# Altium footprint library CHIP.PcbLib: 8 footprints
Each footprint in its own frame and in the unit in brackets; x right, y up, seen from the top. Pads: shape width x height; smd on the part's side, far side on the other; paste and mask are expansions set on the pad; w line width, h text height; cw(c..) or ccw(c..) is an arc to the next point about the centre after c.
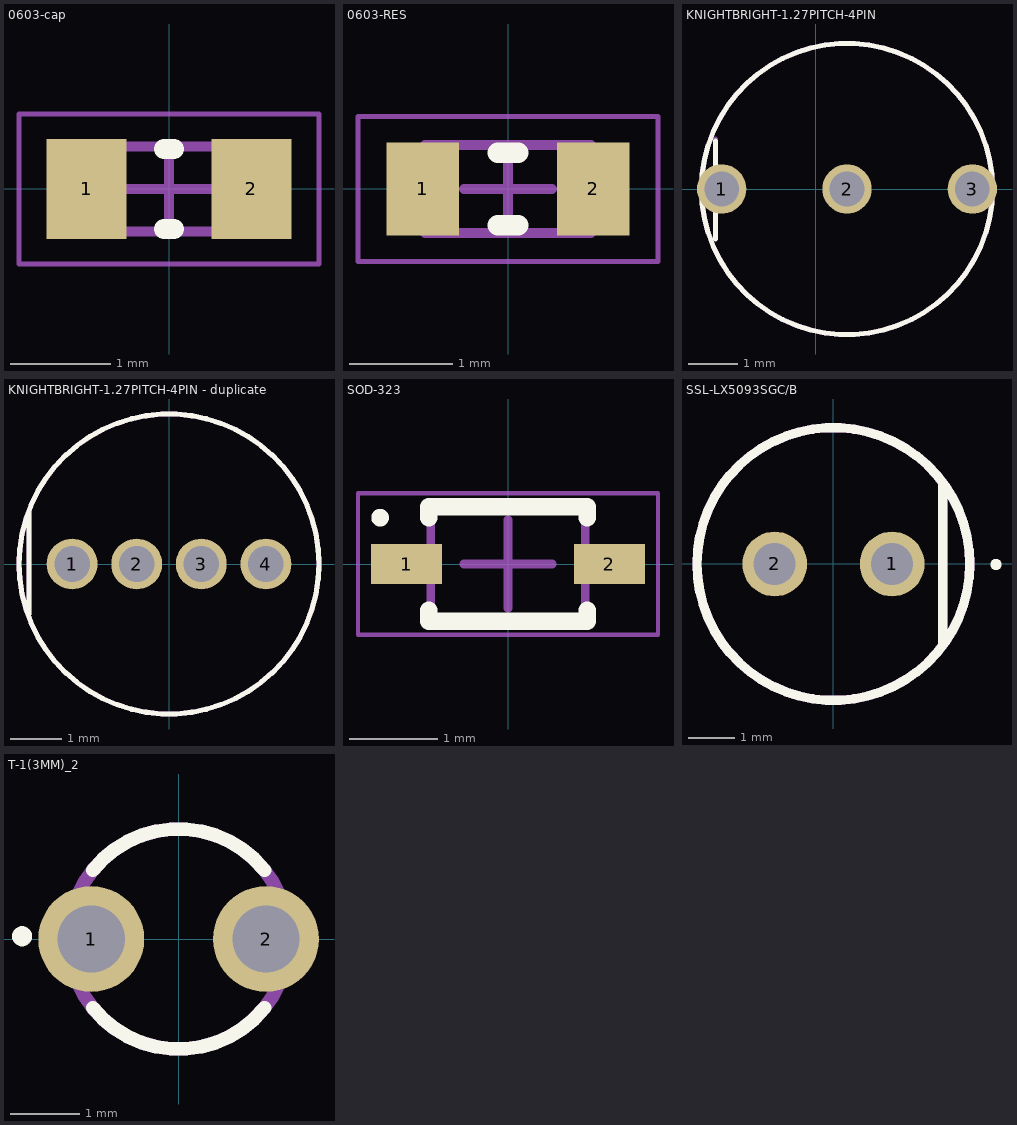
[diagram p0: the footprints below, top view; thin cyan lines are the x and y axes]

## 0603-cap [mm] "Chip Capacitor, 2-Leads, Body 1,60x0,85mm, IPC Medium Density"
height 0.6
pads (2):
  rect 0.8x1 smd: 1(-0.825,0) 2(0.825,0)
Top Overlay:
  lines w0.2: -0.05,-0.4 0.05,-0.4 ; -0.05,0.4 0.05,0.4
Mechanical 13:
  lines w0.1: -0.8,-0.425 -0.8,0.425 0.8,0.425 0.8,-0.425 -0.8,-0.425
Mechanical 15:
  lines w0.05: -1.5,-0.75 -1.5,0.75 1.5,0.75 1.5,-0.75 -1.5,-0.75
  lines w0.1: -0.425,0 0.425,0 ; 0,-0.425 0,0.425
3D body: height 0.6, standoff 0, extent -0.5,-0.425 0.5,0.425
3D body: height 0.6, standoff 0, extent -0.8,-0.425 -0.5,0.425
3D body: height 0.6, standoff 0, extent 0.5,-0.425 0.8,0.425

## 0603-RES [mm] "Chip Resistor, 2-Leads, Body 1,60x0,85mm, IPC Medium Density"
height 0.6
pads (2):
  rect 0.7x0.9 smd: 1(-0.825,0) 2(0.825,0)
Top Overlay:
  lines w0.2: -0.1,-0.35 0.1,-0.35 ; -0.1,0.35 0.1,0.35
Mechanical 13:
  lines w0.1: -0.8,-0.425 -0.8,0.425 0.8,0.425 0.8,-0.425 -0.8,-0.425
Mechanical 15:
  lines w0.05: -1.45,-0.7 -1.45,0.7 1.45,0.7 1.45,-0.7 -1.45,-0.7
  lines w0.1: -0.425,0 0.425,0 ; 0,-0.425 0,0.425
3D body: height 0.6, standoff 0, extent -0.5,-0.425 0.5,0.425
3D body: height 0.6, standoff 0, extent -0.8,-0.425 -0.5,0.425
3D body: height 0.6, standoff 0, extent 0.5,-0.425 0.8,0.425

## KNIGHTBRIGHT-1.27PITCH-4PIN [mm]
pads (3):
  round 1 hole 0.7 unplated: 1(-1.905,0) 2(0.635,0) 3(3.175,0)
Top Overlay:
  circle w0.1: c0.635,0 r2.95
  lines w0.1: -2.032,-1.016 -2.032,0.97
Mechanical 13:
  circle w0.1: c0.635,0 r2.95
  lines w0.1: -2.032,-0.97 -2.032,1.016
3D body "everlight-5MM-LED-RG.STEP": height 6.5, standoff -6.1, extent -2.469,-2.85 3.121,2.85

## KNIGHTBRIGHT-1.27PITCH-4PIN - duplicate [mm]
pads (4):
  round 1 hole 0.7 unplated: 1(-1.905,0) 2(-0.635,0) 3(0.635,0) 4(1.905,0)
Top Overlay:
  circle w0.1: c0,0 r2.95
  lines w0.1: -2.755,-0.981 -2.755,1.005
Mechanical 13:
  circle w0.1: c0,0 r2.95
  lines w0.1: -2.755,-0.981 -2.755,1.005
3D body "L-154A4SURKQBDZGW.stp": height 8.6, standoff -24.5, extent -2.97,-2.94 2.48,2.96

## PCBComponent_1 [mm]

## SOD-323 [mm] "SODFL, 2-Leads, Body 1,25x2,50mm, IPC Medium Density"
height 1.05
pads (2):
  rect 0.8x0.45 smd: 1(-1.15,0) 2(1.15,0)
Top Overlay:
  circle w0.1: c-1.45,0.525 r0.05
  lines w0.2: -0.9,-0.525 -0.9,-0.65 0.9,-0.65 0.9,-0.525 ; -0.9,0.525 -0.9,0.65 0.9,0.65 0.9,0.525
Mechanical 13:
  lines w0.1: -0.875,-0.65 0.875,-0.65 0.875,0.65 -0.875,0.65 -0.875,-0.65
Mechanical 15:
  lines w0.05: -1.7,-0.8 1.7,-0.8 1.7,0.8 -1.7,0.8 -1.7,-0.8
  lines w0.1: -0.5,0 0.5,0 ; 0,-0.5 0,0.5
3D body: height 1.05, standoff 0, extent -0.875,-0.65 0.875,0.65

## SSL-LX5093SGC/B [mm]
pads (2):
  round 1.4 hole 0.91: 1(1.27,0) 2(-1.27,0)
Top Overlay:
  circle w0.2: c3.515,-0.01 r0.022
  circle w0.2: c0,0 r2.95
  lines w0.2: 2.365,-1.748 2.365,1.733
Mechanical 13:
  circle w0.2: c0,0 r2.95
  lines w0.2: 2.365,-1.748 2.365,1.733
3D body "SSL-LX5093TC.stp": height 9.57, standoff -26.03, extent -2.91,-2.947 2.54,2.947

## T-1(3MM)_2 [mm]
pads (2):
  round 1.54 hole 0.98: 1(-1.27,0) 2(1.27,0)
Top Overlay:
  circle w0.2: c-2.274,0.04 r0.046
  lines w0.2: -1.249,-1 ccw(c0,0) 1.249,-1 ; -1.249,1 cw(c0,0) 1.249,1
Mechanical 13:
  circle w0.2: c0,0 r1.6
3D body "L-934HD.stp": height 5.7, standoff -25.9, extent -1.492,-1.45 1.495,1.439